# Altium integrated library ISSI SRAM Synchronous SRAM Flow-Through.IntLib: 689 symbols (part 67 of 79)
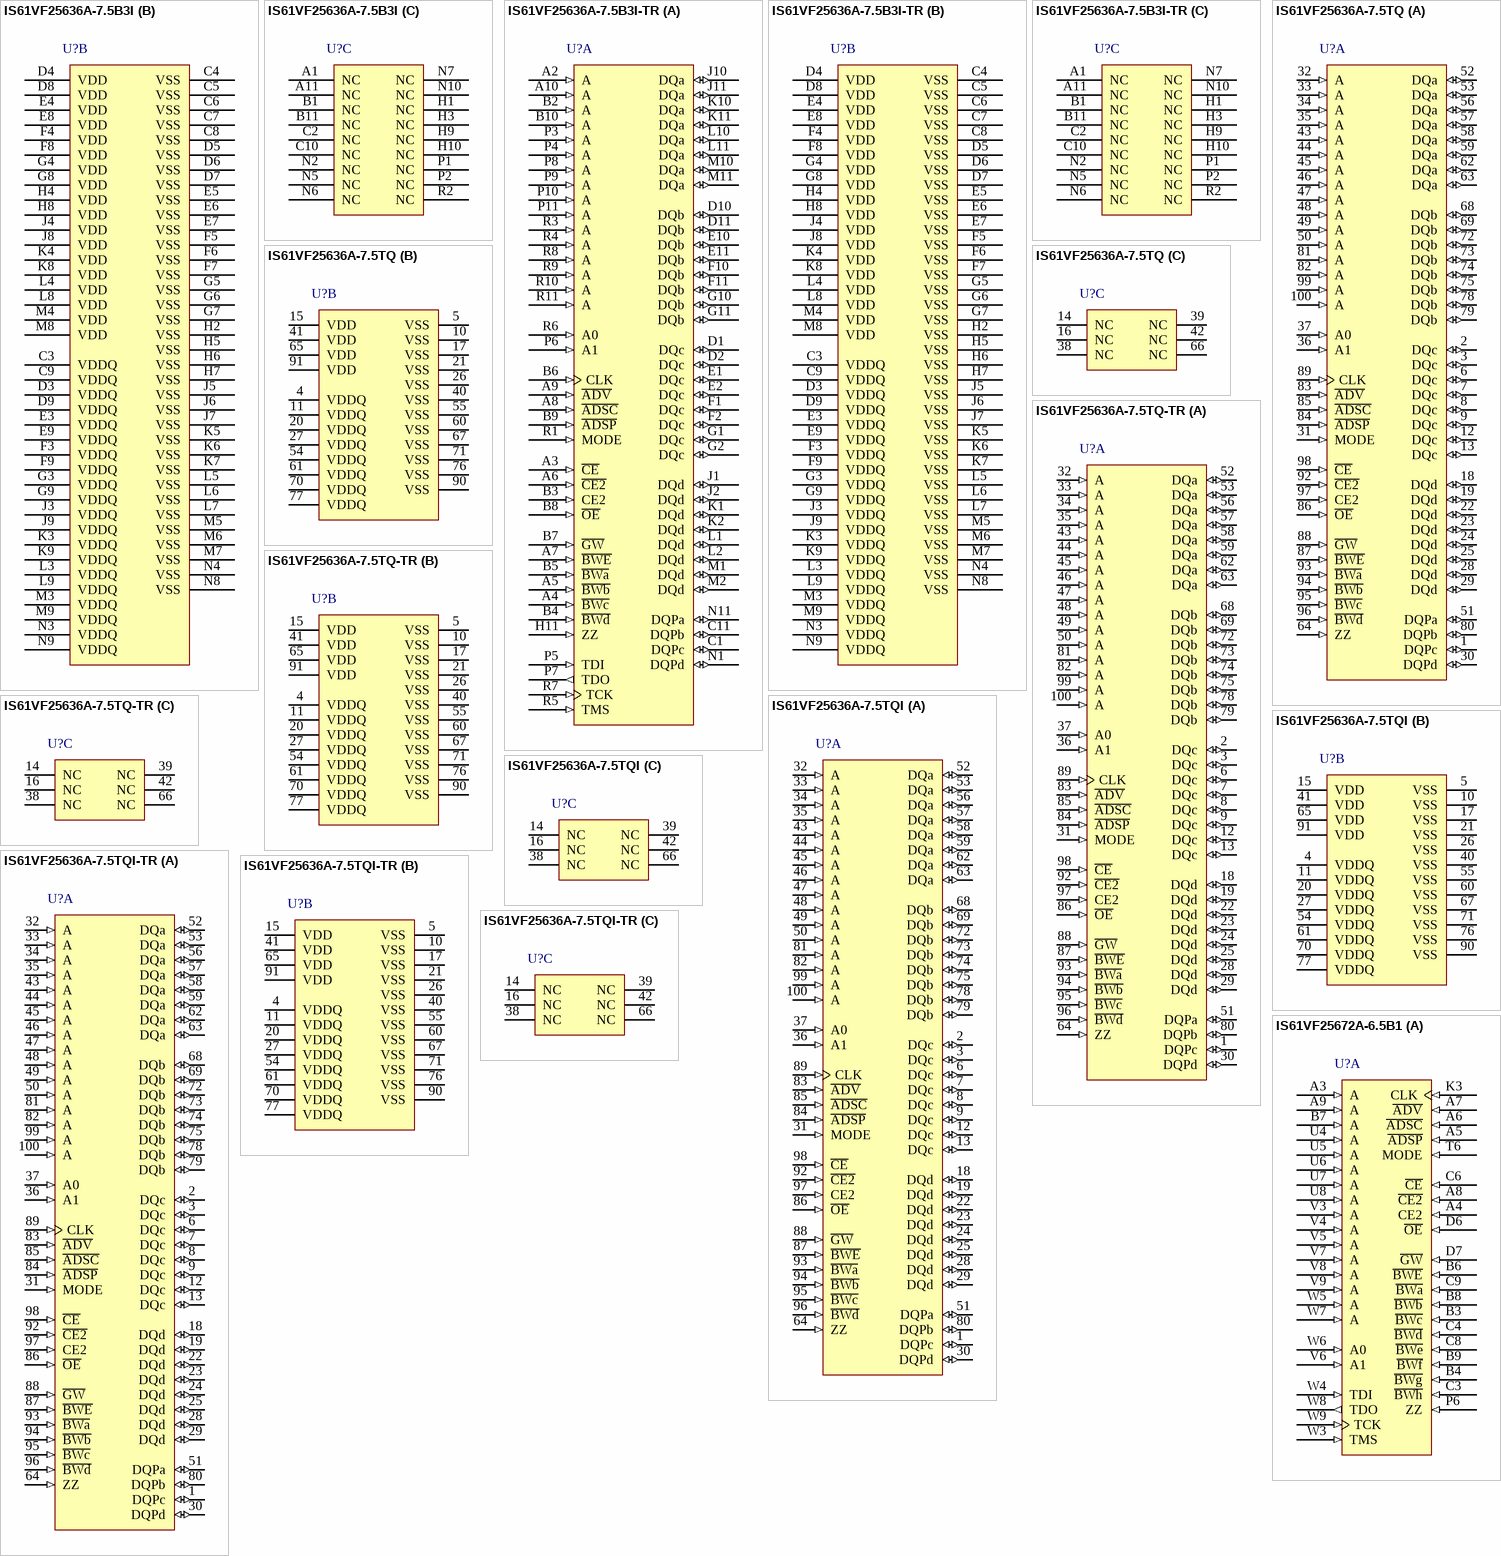
[diagram p201: symbols IS61VF25636A-7.5B3I to IS61VF25672A-6.5B1]

## IS61VF25636A-7.5TQI-TR
designator U?
9 M Synchronous Flow Through SRAM, 256 K x 36, -40 to 85 degC, 100-Pin QFP (TQFP-100); Manufacturer: Integrated Silicon Solution Inc (ISSI); PartNumber: IS61VF25636A-7.5TQI-TR; Density: 9M; Packing: Tape & Reel; Vcc: 2.5 V; DatasheetVersion: Rev. H; PackageVersion: Rev. F, 09/2009; PackageReference: TQFP-100; PackageDescription: 100-Pin 20 x 14 mm LQFP, Pitch 0.65 mm; Organization: 256Kx36; VccQ: 2.5 V; Mounting Technology: Surface Mount; ComponentLink1Description: Manufacturer URL; ComponentLink1URL: http://www.issi.com/US/index.shtml; ComponentLink2Description: Datasheet; ComponentLink2URL: http://www.issi.com/WW/pdf/61VF_LF25636A_51218A.pdf; ComponentLink3Description: Package Specification; ComponentLink3URL: http://www.issi.com/WW/pdf/61VPS_LPS25636A_51218A.pdf
footprint ISSI-TQFP-100-20000X14000DE_N (QFP, 100-Leads, Body 20x14mm, Pitch 0.65mm, IPC Medium Density)
part A pins: 1 DQPc (io) "Parity Data Input/Output", 2 DQc (io) "Synchronous Data Input/Output", 3 DQc (io) "Synchronous Data Input/Output", 6 DQc (io) "Synchronous Data Input/Output", 7 DQc (io) "Synchronous Data Input/Output", 8 DQc (io) "Synchronous Data Input/Output", 9 DQc (io) "Synchronous Data Input/Output", 12 DQc (io) "Synchronous Data Input/Output", 13 DQc (io) "Synchronous Data Input/Output", 18 DQd (io) "Synchronous Data Input/Output", 19 DQd (io) "Synchronous Data Input/Output", 22 DQd (io) "Synchronous Data Input/Output", 23 DQd (io) "Synchronous Data Input/Output", 24 DQd (io) "Synchronous Data Input/Output", 25 DQd (io) "Synchronous Data Input/Output", 28 DQd (io) "Synchronous Data Input/Output", 29 DQd (io) "Synchronous Data Input/Output", 30 DQPd (io) "Parity Data Input/Output", 31 MODE (in) "Burst Sequence Selection", 32 A (in) "Synchronous Address Input", 33 A (in) "Synchronous Address Input", 34 A (in) "Synchronous Address Input", 35 A (in) "Synchronous Address Input", 36 A1 (in) "Synchronous Address Input. These pins must tied to the two LSBs of the address bus", 37 A0 (in) "Synchronous Address Input. These pins must tied to the two LSBs of the address bus", 43 A (in) "Synchronous Address Input", 44 A (in) "Synchronous Address Input", 45 A (in) "Synchronous Address Input", 46 A (in) "Synchronous Address Input", 47 A (in) "Synchronous Address Input", 48 A (in) "Synchronous Address Input", 49 A (in) "Synchronous Address Input", 50 A (in) "Synchronous Address Input", 51 DQPa (io) "Parity Data Input/Output", 52 DQa (io) "Synchronous Data Input/Output", 53 DQa (io) "Synchronous Data Input/Output", 56 DQa (io) "Synchronous Data Input/Output", 57 DQa (io) "Synchronous Data Input/Output", 58 DQa (io) "Synchronous Data Input/Output", 59 DQa (io) "Synchronous Data Input/Output", 62 DQa (io) "Synchronous Data Input/Output", 63 DQa (io) "Synchronous Data Input/Output", 64 ZZ (in) "Snooze Enable", 68 DQb (io) "Synchronous Data Input/Output", 69 DQb (io) "Synchronous Data Input/Output", 72 DQb (io) "Synchronous Data Input/Output", 73 DQb (io) "Synchronous Data Input/Output", 74 DQb (io) "Synchronous Data Input/Output", 75 DQb (io) "Synchronous Data Input/Output", 78 DQb (io) "Synchronous Data Input/Output", 79 DQb (io) "Synchronous Data Input/Output", 80 DQPb (io) "Parity Data Input/Output", 81 A (in) "Synchronous Address Input", 82 A (in) "Synchronous Address Input", 83 ~{ADV} (in) "Synchronous Burst Address Advance", 84 ~{ADSP} (in) "Synchronous Processor Address Status", 85 ~{ADSC} (in) "Synchronous Controller Address Status", 86 ~{OE} (in) "Output Enable", 87 ~{BWE} (in) "Synchronous Byte Write Enable", 88 ~{GW} (in) "Synchronous Global Write Enable", 89 CLK (in) "Synchronous Clock", 92 ~{CE2} (in) "Synchronous Chip Enable", 93 ~{BWa} (in) "Synchronous Byte Write Enable", 94 ~{BWb} (in) "Synchronous Byte Write Enable", 95 ~{BWc} (in) "Synchronous Byte Write Enable", 96 ~{BWd} (in) "Synchronous Byte Write Enable", 97 CE2 (in) "Synchronous Chip Enable", 98 ~{CE} (in) "Synchronous Chip Enable", 99 A (in) "Synchronous Address Input", 100 A (in) "Synchronous Address Input"
part B pins: 4 VDDQ (power) "Isolated Output Buffer Supply: 3.3V/2.5V", 5 VSS (power) "Ground", 10 VSS (power) "Ground", 11 VDDQ (power) "Isolated Output Buffer Supply: 3.3V/2.5V", 15 VDD (power) "3.3V/2.5V Power Supply", 17 VSS (power) "Ground", 20 VDDQ (power) "Isolated Output Buffer Supply: 3.3V/2.5V", 21 VSS (power) "Ground", 26 VSS (power) "Ground", 27 VDDQ (power) "Isolated Output Buffer Supply: 3.3V/2.5V", 40 VSS (power) "Ground", 41 VDD (power) "3.3V/2.5V Power Supply", 54 VDDQ (power) "Isolated Output Buffer Supply: 3.3V/2.5V", 55 VSS (power) "Ground", 60 VSS (power) "Ground", 61 VDDQ (power) "Isolated Output Buffer Supply: 3.3V/2.5V", 65 VDD (power) "3.3V/2.5V Power Supply", 67 VSS (power) "Ground", 70 VDDQ (power) "Isolated Output Buffer Supply: 3.3V/2.5V", 71 VSS (power) "Ground", 76 VSS (power) "Ground", 77 VDDQ (power) "Isolated Output Buffer Supply: 3.3V/2.5V", 90 VSS (power) "Ground", 91 VDD (power) "3.3V/2.5V Power Supply"
part C pins: 14 NC "Not Connected", 16 NC "Not Connected", 38 NC "Not Connected", 39 NC "Not Connected", 42 NC "Not Connected", 66 NC "Not Connected"

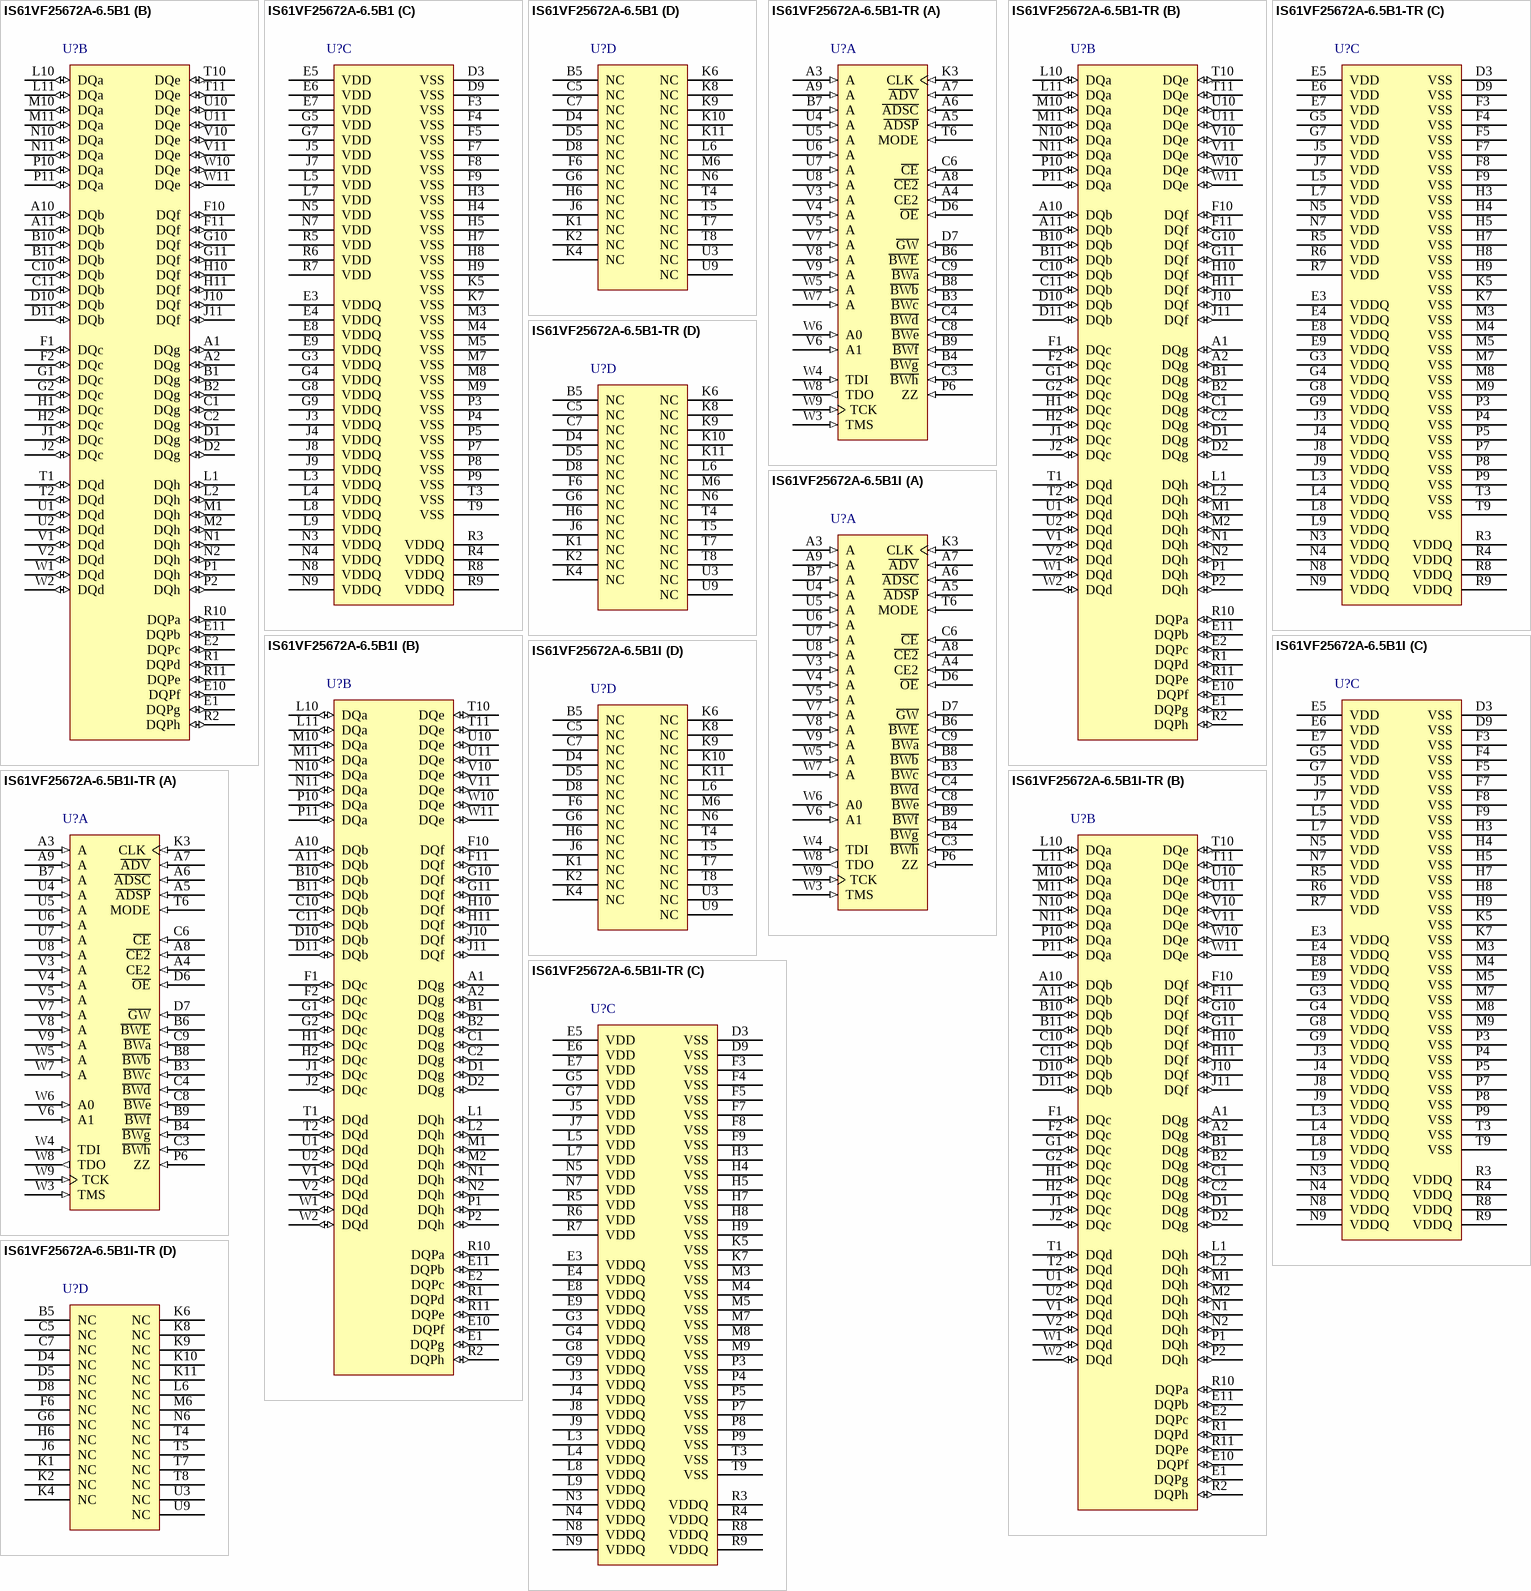
[diagram p114: symbols IS61VF25672A-6.5B1 to IS61VF25672A-6.5B1I-TR]

## IS61VF25672A-6.5B1
designator U?
18 M Synchronous Flow Through SRAM, 256 K x 72, 0 to 70 degC, 209-Pin BGA (LF-BGA-209); Manufacturer: Integrated Silicon Solution Inc (ISSI); PartNumber: IS61VF25672A-6.5B1; Density: 18M; Packing: Tray / Tube; Vcc: 2.5 V; DatasheetVersion: Rev. K; PackageVersion: Rev. B, 12/2007; PackageReference: LF-BGA-209; PackageDescription: 209-Pin 14 x 22 mm LF-BGA, Pitch 1 mm; Organization: 256Kx72; VccQ: 2.5 V; Mounting Technology: Surface Mount; ComponentLink1Description: Manufacturer URL; ComponentLink1URL: http://www.issi.com/US/index.shtml; ComponentLink2Description: Datasheet; ComponentLink2URL: http://www.issi.com/WW/pdf/61VF_LF25672A_51236A_102418A.pdf; ComponentLink3Description: Package Specification; ComponentLink3URL: http://www.issi.com/WW/pdf/61NLF_NVF25672_51236_102418.pdf
footprint ISSI-LF-BGA-209-14000X22000DE (BGA, 209-Balls, Body 22x14mm, Pitch 1mm)
part A pins: A3 A (in) "Address Input", A4 CE2 (in) "Synchronous Chip Select", A5 ~{ADSP} (in) "Address Status Processor", A6 ~{ADSC} (in) "Address Status Controller", A7 ~{ADV} (in) "Synchronous Burst Address Advance", A8 ~{CE2} (in) "Synchronous Chip Select", A9 A (in) "Address Input", B3 ~{BWc} (in) "Synchronous Byte Write Control", B4 ~{BWg} (in) "Synchronous Byte Write Control", B6 ~{BWE} (in) "Byte Write Enable", B7 A (in) "Address Input", B8 ~{BWb} (in) "Synchronous Byte Write Control", B9 ~{BWf} (in) "Synchronous Byte Write Control", C3 ~{BWh} (in) "Synchronous Byte Write Control", C4 ~{BWd} (in) "Synchronous Byte Write Control", C6 ~{CE} (in) "Synchronous Chip Select", C8 ~{BWe} (in) "Synchronous Byte Write Control", C9 ~{BWa} (in) "Synchronous Byte Write Control", D6 ~{OE} (in) "Output Enable", D7 ~{GW} (in) "Global Write Enable", K3 CLK (in) "Synchronous Clock", P6 ZZ (in) "Power Sleep Mode", T6 MODE (in) "Burst Sequence Selection", U4 A (in) "Address Input", U5 A (in) "Address Input", U6 A (in) "Address Input", U7 A (in) "Address Input", U8 A (in) "Address Input", V3 A (in) "Address Input", V4 A (in) "Address Input", V5 A (in) "Address Input", V6 A1 (in) "Synchronous Burst Address Input", V7 A (in) "Address Input", V8 A (in) "Address Input", V9 A (in) "Address Input", W3 TMS (in) "JTAG Pin", W4 TDI (in) "JTAG Pin", W5 A (in) "Address Input", W6 A0 (in) "Synchronous Burst Address Input", W7 A (in) "Address Input", W8 TDO (out) "JTAG Pin", W9 TCK (in) "JTAG Pin"
part B pins: A1 DQg (io) "Data Input/Output", A2 DQg (io) "Data Input/Output", A10 DQb (io) "Data Input/Output", A11 DQb (io) "Data Input/Output", B1 DQg (io) "Data Input/Output", B2 DQg (io) "Data Input/Output", B10 DQb (io) "Data Input/Output", B11 DQb (io) "Data Input/Output", C1 DQg (io) "Data Input/Output", C2 DQg (io) "Data Input/Output", C10 DQb (io) "Data Input/Output", C11 DQb (io) "Data Input/Output", D1 DQg (io) "Data Input/Output", D2 DQg (io) "Data Input/Output", D10 DQb (io) "Data Input/Output", D11 DQb (io) "Data Input/Output", E1 DQPg (io) "Data Input/Output", E2 DQPc (io) "Data Input/Output", E10 DQPf (io) "Data Input/Output", E11 DQPb (io) "Data Input/Output", F1 DQc (io) "Data Input/Output", F2 DQc (io) "Data Input/Output", F10 DQf (io) "Data Input/Output", F11 DQf (io) "Data Input/Output", G1 DQc (io) "Data Input/Output", G2 DQc (io) "Data Input/Output", G10 DQf (io) "Data Input/Output", G11 DQf (io) "Data Input/Output", H1 DQc (io) "Data Input/Output", H2 DQc (io) "Data Input/Output", H10 DQf (io) "Data Input/Output", H11 DQf (io) "Data Input/Output", J1 DQc (io) "Data Input/Output", J2 DQc (io) "Data Input/Output", J10 DQf (io) "Data Input/Output", J11 DQf (io) "Data Input/Output", L1 DQh (io) "Data Input/Output", L2 DQh (io) "Data Input/Output", L10 DQa (io) "Data Input/Output", L11 DQa (io) "Data Input/Output", M1 DQh (io) "Data Input/Output", M2 DQh (io) "Data Input/Output", M10 DQa (io) "Data Input/Output", M11 DQa (io) "Data Input/Output", N1 DQh (io) "Data Input/Output", N2 DQh (io) "Data Input/Output", N10 DQa (io) "Data Input/Output", N11 DQa (io) "Data Input/Output", P1 DQh (io) "Data Input/Output", P2 DQh (io) "Data Input/Output", P10 DQa (io) "Data Input/Output", P11 DQa (io) "Data Input/Output", R1 DQPd (io) "Data Input/Output", R2 DQPh (io) "Data Input/Output", R10 DQPa (io) "Data Input/Output", R11 DQPe (io) "Data Input/Output", T1 DQd (io) "Data Input/Output", T2 DQd (io) "Data Input/Output", T10 DQe (io) "Data Input/Output", T11 DQe (io) "Data Input/Output", U1 DQd (io) "Data Input/Output", U2 DQd (io) "Data Input/Output", U10 DQe (io) "Data Input/Output", U11 DQe (io) "Data Input/Output", V1 DQd (io) "Data Input/Output", V2 DQd (io) "Data Input/Output", V10 DQe (io) "Data Input/Output", V11 DQe (io) "Data Input/Output", W1 DQd (io) "Data Input/Output", W2 DQd (io) "Data Input/Output", W10 DQe (io) "Data Input/Output", W11 DQe (io) "Data Input/Output"
part C pins: D3 VSS (power) "Ground", D9 VSS (power) "Ground", E3 VDDQ (power) "Isolated Output Power Supply 3.3V/2.5V", E4 VDDQ (power) "Isolated Output Power Supply 3.3V/2.5V", E5 VDD (power) "3.3V/2.5V Power Supply", E6 VDD (power) "3.3V/2.5V Power Supply", E7 VDD (power) "3.3V/2.5V Power Supply", E8 VDDQ (power) "Isolated Output Power Supply 3.3V/2.5V", E9 VDDQ (power) "Isolated Output Power Supply 3.3V/2.5V", F3 VSS (power) "Ground", F4 VSS (power) "Ground", F5 VSS (power) "Ground", F7 VSS (power) "Ground", F8 VSS (power) "Ground", F9 VSS (power) "Ground", G3 VDDQ (power) "Isolated Output Power Supply 3.3V/2.5V", G4 VDDQ (power) "Isolated Output Power Supply 3.3V/2.5V", G5 VDD (power) "3.3V/2.5V Power Supply", G7 VDD (power) "3.3V/2.5V Power Supply", G8 VDDQ (power) "Isolated Output Power Supply 3.3V/2.5V", G9 VDDQ (power) "Isolated Output Power Supply 3.3V/2.5V", H3 VSS (power) "Ground", H4 VSS (power) "Ground", H5 VSS (power) "Ground", H7 VSS (power) "Ground", H8 VSS (power) "Ground", H9 VSS (power) "Ground", J3 VDDQ (power) "Isolated Output Power Supply 3.3V/2.5V", J4 VDDQ (power) "Isolated Output Power Supply 3.3V/2.5V", J5 VDD (power) "3.3V/2.5V Power Supply", J7 VDD (power) "3.3V/2.5V Power Supply", J8 VDDQ (power) "Isolated Output Power Supply 3.3V/2.5V", J9 VDDQ (power) "Isolated Output Power Supply 3.3V/2.5V", K5 VSS (power) "Ground", K7 VSS (power) "Ground", L3 VDDQ (power) "Isolated Output Power Supply 3.3V/2.5V", L4 VDDQ (power) "Isolated Output Power Supply 3.3V/2.5V", L5 VDD (power) "3.3V/2.5V Power Supply", L7 VDD (power) "3.3V/2.5V Power Supply", L8 VDDQ (power) "Isolated Output Power Supply 3.3V/2.5V", L9 VDDQ (power) "Isolated Output Power Supply 3.3V/2.5V", M3 VSS (power) "Ground", M4 VSS (power) "Ground", M5 VSS (power) "Ground", M7 VSS (power) "Ground", M8 VSS (power) "Ground", M9 VSS (power) "Ground", N3 VDDQ (power) "Isolated Output Power Supply 3.3V/2.5V", N4 VDDQ (power) "Isolated Output Power Supply 3.3V/2.5V", N5 VDD (power) "3.3V/2.5V Power Supply", N7 VDD (power) "3.3V/2.5V Power Supply", N8 VDDQ (power) "Isolated Output Power Supply 3.3V/2.5V", N9 VDDQ (power) "Isolated Output Power Supply 3.3V/2.5V", P3 VSS (power) "Ground", P4 VSS (power) "Ground", P5 VSS (power) "Ground", P7 VSS (power) "Ground", P8 VSS (power) "Ground", P9 VSS (power) "Ground", R3 VDDQ (power) "Isolated Output Power Supply 3.3V/2.5V", R4 VDDQ (power) "Isolated Output Power Supply 3.3V/2.5V", R5 VDD (power) "3.3V/2.5V Power Supply", R6 VDD (power) "3.3V/2.5V Power Supply", R7 VDD (power) "3.3V/2.5V Power Supply", R8 VDDQ (power) "Isolated Output Power Supply 3.3V/2.5V", R9 VDDQ (power) "Isolated Output Power Supply 3.3V/2.5V", T3 VSS (power) "Ground", T9 VSS (power) "Ground"
part D pins: B5 NC "No Connect", C5 NC "No Connect", C7 NC "No Connect", D4 NC "No Connect", D5 NC "No Connect", D8 NC "No Connect", F6 NC "No Connect", G6 NC "No Connect", H6 NC "No Connect", J6 NC "No Connect", K1 NC "No Connect", K2 NC "No Connect", K4 NC "No Connect", K6 NC "No Connect", K8 NC "No Connect", K9 NC "No Connect", K10 NC "No Connect", K11 NC "No Connect", L6 NC "No Connect", M6 NC "No Connect", N6 NC "No Connect", T4 NC "No Connect", T5 NC "No Connect", T7 NC "No Connect", T8 NC "No Connect", U3 NC "No Connect", U9 NC "No Connect"

## IS61VF25672A-6.5B1-TR
designator U?
18 M Synchronous Flow Through SRAM, 256 K x 72, 0 to 70 degC, 209-Pin BGA (LF-BGA-209); Manufacturer: Integrated Silicon Solution Inc (ISSI); PartNumber: IS61VF25672A-6.5B1-TR; Density: 18M; Packing: Tape & Reel; Vcc: 2.5 V; DatasheetVersion: Rev. K; PackageVersion: Rev. B, 12/2007; PackageReference: LF-BGA-209; PackageDescription: 209-Pin 14 x 22 mm LF-BGA, Pitch 1 mm; Organization: 256Kx72; VccQ: 2.5 V; Mounting Technology: Surface Mount; ComponentLink1Description: Manufacturer URL; ComponentLink1URL: http://www.issi.com/US/index.shtml; ComponentLink2Description: Datasheet; ComponentLink2URL: http://www.issi.com/WW/pdf/61VF_LF25672A_51236A_102418A.pdf; ComponentLink3Description: Package Specification; ComponentLink3URL: http://www.issi.com/WW/pdf/61NLF_NVF25672_51236_102418.pdf
footprint ISSI-LF-BGA-209-14000X22000DE (BGA, 209-Balls, Body 22x14mm, Pitch 1mm)
part A pins: A3 A (in) "Address Input", A4 CE2 (in) "Synchronous Chip Select", A5 ~{ADSP} (in) "Address Status Processor", A6 ~{ADSC} (in) "Address Status Controller", A7 ~{ADV} (in) "Synchronous Burst Address Advance", A8 ~{CE2} (in) "Synchronous Chip Select", A9 A (in) "Address Input", B3 ~{BWc} (in) "Synchronous Byte Write Control", B4 ~{BWg} (in) "Synchronous Byte Write Control", B6 ~{BWE} (in) "Byte Write Enable", B7 A (in) "Address Input", B8 ~{BWb} (in) "Synchronous Byte Write Control", B9 ~{BWf} (in) "Synchronous Byte Write Control", C3 ~{BWh} (in) "Synchronous Byte Write Control", C4 ~{BWd} (in) "Synchronous Byte Write Control", C6 ~{CE} (in) "Synchronous Chip Select", C8 ~{BWe} (in) "Synchronous Byte Write Control", C9 ~{BWa} (in) "Synchronous Byte Write Control", D6 ~{OE} (in) "Output Enable", D7 ~{GW} (in) "Global Write Enable", K3 CLK (in) "Synchronous Clock", P6 ZZ (in) "Power Sleep Mode", T6 MODE (in) "Burst Sequence Selection", U4 A (in) "Address Input", U5 A (in) "Address Input", U6 A (in) "Address Input", U7 A (in) "Address Input", U8 A (in) "Address Input", V3 A (in) "Address Input", V4 A (in) "Address Input", V5 A (in) "Address Input", V6 A1 (in) "Synchronous Burst Address Input", V7 A (in) "Address Input", V8 A (in) "Address Input", V9 A (in) "Address Input", W3 TMS (in) "JTAG Pin", W4 TDI (in) "JTAG Pin", W5 A (in) "Address Input", W6 A0 (in) "Synchronous Burst Address Input", W7 A (in) "Address Input", W8 TDO (out) "JTAG Pin", W9 TCK (in) "JTAG Pin"
part B pins: A1 DQg (io) "Data Input/Output", A2 DQg (io) "Data Input/Output", A10 DQb (io) "Data Input/Output", A11 DQb (io) "Data Input/Output", B1 DQg (io) "Data Input/Output", B2 DQg (io) "Data Input/Output", B10 DQb (io) "Data Input/Output", B11 DQb (io) "Data Input/Output", C1 DQg (io) "Data Input/Output", C2 DQg (io) "Data Input/Output", C10 DQb (io) "Data Input/Output", C11 DQb (io) "Data Input/Output", D1 DQg (io) "Data Input/Output", D2 DQg (io) "Data Input/Output", D10 DQb (io) "Data Input/Output", D11 DQb (io) "Data Input/Output", E1 DQPg (io) "Data Input/Output", E2 DQPc (io) "Data Input/Output", E10 DQPf (io) "Data Input/Output", E11 DQPb (io) "Data Input/Output", F1 DQc (io) "Data Input/Output", F2 DQc (io) "Data Input/Output", F10 DQf (io) "Data Input/Output", F11 DQf (io) "Data Input/Output", G1 DQc (io) "Data Input/Output", G2 DQc (io) "Data Input/Output", G10 DQf (io) "Data Input/Output", G11 DQf (io) "Data Input/Output", H1 DQc (io) "Data Input/Output", H2 DQc (io) "Data Input/Output", H10 DQf (io) "Data Input/Output", H11 DQf (io) "Data Input/Output", J1 DQc (io) "Data Input/Output", J2 DQc (io) "Data Input/Output", J10 DQf (io) "Data Input/Output", J11 DQf (io) "Data Input/Output", L1 DQh (io) "Data Input/Output", L2 DQh (io) "Data Input/Output", L10 DQa (io) "Data Input/Output", L11 DQa (io) "Data Input/Output", M1 DQh (io) "Data Input/Output", M2 DQh (io) "Data Input/Output", M10 DQa (io) "Data Input/Output", M11 DQa (io) "Data Input/Output", N1 DQh (io) "Data Input/Output", N2 DQh (io) "Data Input/Output", N10 DQa (io) "Data Input/Output", N11 DQa (io) "Data Input/Output", P1 DQh (io) "Data Input/Output", P2 DQh (io) "Data Input/Output", P10 DQa (io) "Data Input/Output", P11 DQa (io) "Data Input/Output", R1 DQPd (io) "Data Input/Output", R2 DQPh (io) "Data Input/Output", R10 DQPa (io) "Data Input/Output", R11 DQPe (io) "Data Input/Output", T1 DQd (io) "Data Input/Output", T2 DQd (io) "Data Input/Output", T10 DQe (io) "Data Input/Output", T11 DQe (io) "Data Input/Output", U1 DQd (io) "Data Input/Output", U2 DQd (io) "Data Input/Output", U10 DQe (io) "Data Input/Output", U11 DQe (io) "Data Input/Output", V1 DQd (io) "Data Input/Output", V2 DQd (io) "Data Input/Output", V10 DQe (io) "Data Input/Output", V11 DQe (io) "Data Input/Output", W1 DQd (io) "Data Input/Output", W2 DQd (io) "Data Input/Output", W10 DQe (io) "Data Input/Output", W11 DQe (io) "Data Input/Output"
part C pins: D3 VSS (power) "Ground", D9 VSS (power) "Ground", E3 VDDQ (power) "Isolated Output Power Supply 3.3V/2.5V", E4 VDDQ (power) "Isolated Output Power Supply 3.3V/2.5V", E5 VDD (power) "3.3V/2.5V Power Supply", E6 VDD (power) "3.3V/2.5V Power Supply", E7 VDD (power) "3.3V/2.5V Power Supply", E8 VDDQ (power) "Isolated Output Power Supply 3.3V/2.5V", E9 VDDQ (power) "Isolated Output Power Supply 3.3V/2.5V", F3 VSS (power) "Ground", F4 VSS (power) "Ground", F5 VSS (power) "Ground", F7 VSS (power) "Ground", F8 VSS (power) "Ground", F9 VSS (power) "Ground", G3 VDDQ (power) "Isolated Output Power Supply 3.3V/2.5V", G4 VDDQ (power) "Isolated Output Power Supply 3.3V/2.5V", G5 VDD (power) "3.3V/2.5V Power Supply", G7 VDD (power) "3.3V/2.5V Power Supply", G8 VDDQ (power) "Isolated Output Power Supply 3.3V/2.5V", G9 VDDQ (power) "Isolated Output Power Supply 3.3V/2.5V", H3 VSS (power) "Ground", H4 VSS (power) "Ground", H5 VSS (power) "Ground", H7 VSS (power) "Ground", H8 VSS (power) "Ground", H9 VSS (power) "Ground", J3 VDDQ (power) "Isolated Output Power Supply 3.3V/2.5V", J4 VDDQ (power) "Isolated Output Power Supply 3.3V/2.5V", J5 VDD (power) "3.3V/2.5V Power Supply", J7 VDD (power) "3.3V/2.5V Power Supply", J8 VDDQ (power) "Isolated Output Power Supply 3.3V/2.5V", J9 VDDQ (power) "Isolated Output Power Supply 3.3V/2.5V", K5 VSS (power) "Ground", K7 VSS (power) "Ground", L3 VDDQ (power) "Isolated Output Power Supply 3.3V/2.5V", L4 VDDQ (power) "Isolated Output Power Supply 3.3V/2.5V", L5 VDD (power) "3.3V/2.5V Power Supply", L7 VDD (power) "3.3V/2.5V Power Supply", L8 VDDQ (power) "Isolated Output Power Supply 3.3V/2.5V", L9 VDDQ (power) "Isolated Output Power Supply 3.3V/2.5V", M3 VSS (power) "Ground", M4 VSS (power) "Ground", M5 VSS (power) "Ground", M7 VSS (power) "Ground", M8 VSS (power) "Ground", M9 VSS (power) "Ground", N3 VDDQ (power) "Isolated Output Power Supply 3.3V/2.5V", N4 VDDQ (power) "Isolated Output Power Supply 3.3V/2.5V", N5 VDD (power) "3.3V/2.5V Power Supply", N7 VDD (power) "3.3V/2.5V Power Supply", N8 VDDQ (power) "Isolated Output Power Supply 3.3V/2.5V", N9 VDDQ (power) "Isolated Output Power Supply 3.3V/2.5V", P3 VSS (power) "Ground", P4 VSS (power) "Ground", P5 VSS (power) "Ground", P7 VSS (power) "Ground", P8 VSS (power) "Ground", P9 VSS (power) "Ground", R3 VDDQ (power) "Isolated Output Power Supply 3.3V/2.5V", R4 VDDQ (power) "Isolated Output Power Supply 3.3V/2.5V", R5 VDD (power) "3.3V/2.5V Power Supply", R6 VDD (power) "3.3V/2.5V Power Supply", R7 VDD (power) "3.3V/2.5V Power Supply", R8 VDDQ (power) "Isolated Output Power Supply 3.3V/2.5V", R9 VDDQ (power) "Isolated Output Power Supply 3.3V/2.5V", T3 VSS (power) "Ground", T9 VSS (power) "Ground"
part D pins: B5 NC "No Connect", C5 NC "No Connect", C7 NC "No Connect", D4 NC "No Connect", D5 NC "No Connect", D8 NC "No Connect", F6 NC "No Connect", G6 NC "No Connect", H6 NC "No Connect", J6 NC "No Connect", K1 NC "No Connect", K2 NC "No Connect", K4 NC "No Connect", K6 NC "No Connect", K8 NC "No Connect", K9 NC "No Connect", K10 NC "No Connect", K11 NC "No Connect", L6 NC "No Connect", M6 NC "No Connect", N6 NC "No Connect", T4 NC "No Connect", T5 NC "No Connect", T7 NC "No Connect", T8 NC "No Connect", U3 NC "No Connect", U9 NC "No Connect"

## IS61VF25672A-6.5B1I
designator U?
18 M Synchronous Flow Through SRAM, 256 K x 72, -40 to 85 degC, 209-Pin BGA (LF-BGA-209); Manufacturer: Integrated Silicon Solution Inc (ISSI); PartNumber: IS61VF25672A-6.5B1I; Density: 18M; Packing: Tray / Tube; Vcc: 2.5 V; DatasheetVersion: Rev. K; PackageVersion: Rev. B, 12/2007; PackageReference: LF-BGA-209; PackageDescription: 209-Pin 14 x 22 mm LF-BGA, Pitch 1 mm; Organization: 256Kx72; VccQ: 2.5 V; Mounting Technology: Surface Mount; ComponentLink1Description: Manufacturer URL; ComponentLink1URL: http://www.issi.com/US/index.shtml; ComponentLink2Description: Datasheet; ComponentLink2URL: http://www.issi.com/WW/pdf/61VF_LF25672A_51236A_102418A.pdf; ComponentLink3Description: Package Specification; ComponentLink3URL: http://www.issi.com/WW/pdf/61NLF_NVF25672_51236_102418.pdf
footprint ISSI-LF-BGA-209-14000X22000DE (BGA, 209-Balls, Body 22x14mm, Pitch 1mm)
part A pins: A3 A (in) "Address Input", A4 CE2 (in) "Synchronous Chip Select", A5 ~{ADSP} (in) "Address Status Processor", A6 ~{ADSC} (in) "Address Status Controller", A7 ~{ADV} (in) "Synchronous Burst Address Advance", A8 ~{CE2} (in) "Synchronous Chip Select", A9 A (in) "Address Input", B3 ~{BWc} (in) "Synchronous Byte Write Control", B4 ~{BWg} (in) "Synchronous Byte Write Control", B6 ~{BWE} (in) "Byte Write Enable", B7 A (in) "Address Input", B8 ~{BWb} (in) "Synchronous Byte Write Control", B9 ~{BWf} (in) "Synchronous Byte Write Control", C3 ~{BWh} (in) "Synchronous Byte Write Control", C4 ~{BWd} (in) "Synchronous Byte Write Control", C6 ~{CE} (in) "Synchronous Chip Select", C8 ~{BWe} (in) "Synchronous Byte Write Control", C9 ~{BWa} (in) "Synchronous Byte Write Control", D6 ~{OE} (in) "Output Enable", D7 ~{GW} (in) "Global Write Enable", K3 CLK (in) "Synchronous Clock", P6 ZZ (in) "Power Sleep Mode", T6 MODE (in) "Burst Sequence Selection", U4 A (in) "Address Input", U5 A (in) "Address Input", U6 A (in) "Address Input", U7 A (in) "Address Input", U8 A (in) "Address Input", V3 A (in) "Address Input", V4 A (in) "Address Input", V5 A (in) "Address Input", V6 A1 (in) "Synchronous Burst Address Input", V7 A (in) "Address Input", V8 A (in) "Address Input", V9 A (in) "Address Input", W3 TMS (in) "JTAG Pin", W4 TDI (in) "JTAG Pin", W5 A (in) "Address Input", W6 A0 (in) "Synchronous Burst Address Input", W7 A (in) "Address Input", W8 TDO (out) "JTAG Pin", W9 TCK (in) "JTAG Pin"
part B pins: A1 DQg (io) "Data Input/Output", A2 DQg (io) "Data Input/Output", A10 DQb (io) "Data Input/Output", A11 DQb (io) "Data Input/Output", B1 DQg (io) "Data Input/Output", B2 DQg (io) "Data Input/Output", B10 DQb (io) "Data Input/Output", B11 DQb (io) "Data Input/Output", C1 DQg (io) "Data Input/Output", C2 DQg (io) "Data Input/Output", C10 DQb (io) "Data Input/Output", C11 DQb (io) "Data Input/Output", D1 DQg (io) "Data Input/Output", D2 DQg (io) "Data Input/Output", D10 DQb (io) "Data Input/Output", D11 DQb (io) "Data Input/Output", E1 DQPg (io) "Data Input/Output", E2 DQPc (io) "Data Input/Output", E10 DQPf (io) "Data Input/Output", E11 DQPb (io) "Data Input/Output", F1 DQc (io) "Data Input/Output", F2 DQc (io) "Data Input/Output", F10 DQf (io) "Data Input/Output", F11 DQf (io) "Data Input/Output", G1 DQc (io) "Data Input/Output", G2 DQc (io) "Data Input/Output", G10 DQf (io) "Data Input/Output", G11 DQf (io) "Data Input/Output", H1 DQc (io) "Data Input/Output", H2 DQc (io) "Data Input/Output", H10 DQf (io) "Data Input/Output", H11 DQf (io) "Data Input/Output", J1 DQc (io) "Data Input/Output", J2 DQc (io) "Data Input/Output", J10 DQf (io) "Data Input/Output", J11 DQf (io) "Data Input/Output", L1 DQh (io) "Data Input/Output", L2 DQh (io) "Data Input/Output", L10 DQa (io) "Data Input/Output", L11 DQa (io) "Data Input/Output", M1 DQh (io) "Data Input/Output", M2 DQh (io) "Data Input/Output", M10 DQa (io) "Data Input/Output", M11 DQa (io) "Data Input/Output", N1 DQh (io) "Data Input/Output", N2 DQh (io) "Data Input/Output", N10 DQa (io) "Data Input/Output", N11 DQa (io) "Data Input/Output", P1 DQh (io) "Data Input/Output", P2 DQh (io) "Data Input/Output", P10 DQa (io) "Data Input/Output", P11 DQa (io) "Data Input/Output", R1 DQPd (io) "Data Input/Output", R2 DQPh (io) "Data Input/Output", R10 DQPa (io) "Data Input/Output", R11 DQPe (io) "Data Input/Output", T1 DQd (io) "Data Input/Output", T2 DQd (io) "Data Input/Output", T10 DQe (io) "Data Input/Output", T11 DQe (io) "Data Input/Output", U1 DQd (io) "Data Input/Output", U2 DQd (io) "Data Input/Output", U10 DQe (io) "Data Input/Output", U11 DQe (io) "Data Input/Output", V1 DQd (io) "Data Input/Output", V2 DQd (io) "Data Input/Output", V10 DQe (io) "Data Input/Output", V11 DQe (io) "Data Input/Output", W1 DQd (io) "Data Input/Output", W2 DQd (io) "Data Input/Output", W10 DQe (io) "Data Input/Output", W11 DQe (io) "Data Input/Output"
part C pins: D3 VSS (power) "Ground", D9 VSS (power) "Ground", E3 VDDQ (power) "Isolated Output Power Supply 3.3V/2.5V", E4 VDDQ (power) "Isolated Output Power Supply 3.3V/2.5V", E5 VDD (power) "3.3V/2.5V Power Supply", E6 VDD (power) "3.3V/2.5V Power Supply", E7 VDD (power) "3.3V/2.5V Power Supply", E8 VDDQ (power) "Isolated Output Power Supply 3.3V/2.5V", E9 VDDQ (power) "Isolated Output Power Supply 3.3V/2.5V", F3 VSS (power) "Ground", F4 VSS (power) "Ground", F5 VSS (power) "Ground", F7 VSS (power) "Ground", F8 VSS (power) "Ground", F9 VSS (power) "Ground", G3 VDDQ (power) "Isolated Output Power Supply 3.3V/2.5V", G4 VDDQ (power) "Isolated Output Power Supply 3.3V/2.5V", G5 VDD (power) "3.3V/2.5V Power Supply", G7 VDD (power) "3.3V/2.5V Power Supply", G8 VDDQ (power) "Isolated Output Power Supply 3.3V/2.5V", G9 VDDQ (power) "Isolated Output Power Supply 3.3V/2.5V", H3 VSS (power) "Ground", H4 VSS (power) "Ground", H5 VSS (power) "Ground", H7 VSS (power) "Ground", H8 VSS (power) "Ground", H9 VSS (power) "Ground", J3 VDDQ (power) "Isolated Output Power Supply 3.3V/2.5V", J4 VDDQ (power) "Isolated Output Power Supply 3.3V/2.5V", J5 VDD (power) "3.3V/2.5V Power Supply", J7 VDD (power) "3.3V/2.5V Power Supply", J8 VDDQ (power) "Isolated Output Power Supply 3.3V/2.5V", J9 VDDQ (power) "Isolated Output Power Supply 3.3V/2.5V", K5 VSS (power) "Ground", K7 VSS (power) "Ground", L3 VDDQ (power) "Isolated Output Power Supply 3.3V/2.5V", L4 VDDQ (power) "Isolated Output Power Supply 3.3V/2.5V", L5 VDD (power) "3.3V/2.5V Power Supply", L7 VDD (power) "3.3V/2.5V Power Supply", L8 VDDQ (power) "Isolated Output Power Supply 3.3V/2.5V", L9 VDDQ (power) "Isolated Output Power Supply 3.3V/2.5V", M3 VSS (power) "Ground", M4 VSS (power) "Ground", M5 VSS (power) "Ground", M7 VSS (power) "Ground", M8 VSS (power) "Ground", M9 VSS (power) "Ground", N3 VDDQ (power) "Isolated Output Power Supply 3.3V/2.5V", N4 VDDQ (power) "Isolated Output Power Supply 3.3V/2.5V", N5 VDD (power) "3.3V/2.5V Power Supply", N7 VDD (power) "3.3V/2.5V Power Supply", N8 VDDQ (power) "Isolated Output Power Supply 3.3V/2.5V", N9 VDDQ (power) "Isolated Output Power Supply 3.3V/2.5V", P3 VSS (power) "Ground", P4 VSS (power) "Ground", P5 VSS (power) "Ground", P7 VSS (power) "Ground", P8 VSS (power) "Ground", P9 VSS (power) "Ground", R3 VDDQ (power) "Isolated Output Power Supply 3.3V/2.5V", R4 VDDQ (power) "Isolated Output Power Supply 3.3V/2.5V", R5 VDD (power) "3.3V/2.5V Power Supply", R6 VDD (power) "3.3V/2.5V Power Supply", R7 VDD (power) "3.3V/2.5V Power Supply", R8 VDDQ (power) "Isolated Output Power Supply 3.3V/2.5V", R9 VDDQ (power) "Isolated Output Power Supply 3.3V/2.5V", T3 VSS (power) "Ground", T9 VSS (power) "Ground"
part D pins: B5 NC "No Connect", C5 NC "No Connect", C7 NC "No Connect", D4 NC "No Connect", D5 NC "No Connect", D8 NC "No Connect", F6 NC "No Connect", G6 NC "No Connect", H6 NC "No Connect", J6 NC "No Connect", K1 NC "No Connect", K2 NC "No Connect", K4 NC "No Connect", K6 NC "No Connect", K8 NC "No Connect", K9 NC "No Connect", K10 NC "No Connect", K11 NC "No Connect", L6 NC "No Connect", M6 NC "No Connect", N6 NC "No Connect", T4 NC "No Connect", T5 NC "No Connect", T7 NC "No Connect", T8 NC "No Connect", U3 NC "No Connect", U9 NC "No Connect"

## IS61VF25672A-6.5B1I-TR
designator U?
18 M Synchronous Flow Through SRAM, 256 K x 72, -40 to 85 degC, 209-Pin BGA (LF-BGA-209); Manufacturer: Integrated Silicon Solution Inc (ISSI); PartNumber: IS61VF25672A-6.5B1I-TR; Density: 18M; Packing: Tape & Reel; Vcc: 2.5 V; DatasheetVersion: Rev. K; PackageVersion: Rev. B, 12/2007; PackageReference: LF-BGA-209; PackageDescription: 209-Pin 14 x 22 mm LF-BGA, Pitch 1 mm; Organization: 256Kx72; VccQ: 2.5 V; Mounting Technology: Surface Mount; ComponentLink1Description: Manufacturer URL; ComponentLink1URL: http://www.issi.com/US/index.shtml; ComponentLink2Description: Datasheet; ComponentLink2URL: http://www.issi.com/WW/pdf/61VF_LF25672A_51236A_102418A.pdf; ComponentLink3Description: Package Specification; ComponentLink3URL: http://www.issi.com/WW/pdf/61NLF_NVF25672_51236_102418.pdf
footprint ISSI-LF-BGA-209-14000X22000DE (BGA, 209-Balls, Body 22x14mm, Pitch 1mm)
part A pins: A3 A (in) "Address Input", A4 CE2 (in) "Synchronous Chip Select", A5 ~{ADSP} (in) "Address Status Processor", A6 ~{ADSC} (in) "Address Status Controller", A7 ~{ADV} (in) "Synchronous Burst Address Advance", A8 ~{CE2} (in) "Synchronous Chip Select", A9 A (in) "Address Input", B3 ~{BWc} (in) "Synchronous Byte Write Control", B4 ~{BWg} (in) "Synchronous Byte Write Control", B6 ~{BWE} (in) "Byte Write Enable", B7 A (in) "Address Input", B8 ~{BWb} (in) "Synchronous Byte Write Control", B9 ~{BWf} (in) "Synchronous Byte Write Control", C3 ~{BWh} (in) "Synchronous Byte Write Control", C4 ~{BWd} (in) "Synchronous Byte Write Control", C6 ~{CE} (in) "Synchronous Chip Select", C8 ~{BWe} (in) "Synchronous Byte Write Control", C9 ~{BWa} (in) "Synchronous Byte Write Control", D6 ~{OE} (in) "Output Enable", D7 ~{GW} (in) "Global Write Enable", K3 CLK (in) "Synchronous Clock", P6 ZZ (in) "Power Sleep Mode", T6 MODE (in) "Burst Sequence Selection", U4 A (in) "Address Input", U5 A (in) "Address Input", U6 A (in) "Address Input", U7 A (in) "Address Input", U8 A (in) "Address Input", V3 A (in) "Address Input", V4 A (in) "Address Input", V5 A (in) "Address Input", V6 A1 (in) "Synchronous Burst Address Input", V7 A (in) "Address Input", V8 A (in) "Address Input", V9 A (in) "Address Input", W3 TMS (in) "JTAG Pin", W4 TDI (in) "JTAG Pin", W5 A (in) "Address Input", W6 A0 (in) "Synchronous Burst Address Input", W7 A (in) "Address Input", W8 TDO (out) "JTAG Pin", W9 TCK (in) "JTAG Pin"
part B pins: A1 DQg (io) "Data Input/Output", A2 DQg (io) "Data Input/Output", A10 DQb (io) "Data Input/Output", A11 DQb (io) "Data Input/Output", B1 DQg (io) "Data Input/Output", B2 DQg (io) "Data Input/Output", B10 DQb (io) "Data Input/Output", B11 DQb (io) "Data Input/Output", C1 DQg (io) "Data Input/Output", C2 DQg (io) "Data Input/Output", C10 DQb (io) "Data Input/Output", C11 DQb (io) "Data Input/Output", D1 DQg (io) "Data Input/Output", D2 DQg (io) "Data Input/Output", D10 DQb (io) "Data Input/Output", D11 DQb (io) "Data Input/Output", E1 DQPg (io) "Data Input/Output", E2 DQPc (io) "Data Input/Output", E10 DQPf (io) "Data Input/Output", E11 DQPb (io) "Data Input/Output", F1 DQc (io) "Data Input/Output", F2 DQc (io) "Data Input/Output", F10 DQf (io) "Data Input/Output", F11 DQf (io) "Data Input/Output", G1 DQc (io) "Data Input/Output", G2 DQc (io) "Data Input/Output", G10 DQf (io) "Data Input/Output", G11 DQf (io) "Data Input/Output", H1 DQc (io) "Data Input/Output", H2 DQc (io) "Data Input/Output", H10 DQf (io) "Data Input/Output", H11 DQf (io) "Data Input/Output", J1 DQc (io) "Data Input/Output", J2 DQc (io) "Data Input/Output", J10 DQf (io) "Data Input/Output", J11 DQf (io) "Data Input/Output", L1 DQh (io) "Data Input/Output", L2 DQh (io) "Data Input/Output", L10 DQa (io) "Data Input/Output", L11 DQa (io) "Data Input/Output", M1 DQh (io) "Data Input/Output", M2 DQh (io) "Data Input/Output", M10 DQa (io) "Data Input/Output", M11 DQa (io) "Data Input/Output", N1 DQh (io) "Data Input/Output", N2 DQh (io) "Data Input/Output", N10 DQa (io) "Data Input/Output", N11 DQa (io) "Data Input/Output", P1 DQh (io) "Data Input/Output", P2 DQh (io) "Data Input/Output", P10 DQa (io) "Data Input/Output", P11 DQa (io) "Data Input/Output", R1 DQPd (io) "Data Input/Output", R2 DQPh (io) "Data Input/Output", R10 DQPa (io) "Data Input/Output", R11 DQPe (io) "Data Input/Output", T1 DQd (io) "Data Input/Output", T2 DQd (io) "Data Input/Output", T10 DQe (io) "Data Input/Output", T11 DQe (io) "Data Input/Output", U1 DQd (io) "Data Input/Output", U2 DQd (io) "Data Input/Output", U10 DQe (io) "Data Input/Output", U11 DQe (io) "Data Input/Output", V1 DQd (io) "Data Input/Output", V2 DQd (io) "Data Input/Output", V10 DQe (io) "Data Input/Output", V11 DQe (io) "Data Input/Output", W1 DQd (io) "Data Input/Output", W2 DQd (io) "Data Input/Output", W10 DQe (io) "Data Input/Output", W11 DQe (io) "Data Input/Output"
part C pins: D3 VSS (power) "Ground", D9 VSS (power) "Ground", E3 VDDQ (power) "Isolated Output Power Supply 3.3V/2.5V", E4 VDDQ (power) "Isolated Output Power Supply 3.3V/2.5V", E5 VDD (power) "3.3V/2.5V Power Supply", E6 VDD (power) "3.3V/2.5V Power Supply", E7 VDD (power) "3.3V/2.5V Power Supply", E8 VDDQ (power) "Isolated Output Power Supply 3.3V/2.5V", E9 VDDQ (power) "Isolated Output Power Supply 3.3V/2.5V", F3 VSS (power) "Ground", F4 VSS (power) "Ground", F5 VSS (power) "Ground", F7 VSS (power) "Ground", F8 VSS (power) "Ground", F9 VSS (power) "Ground", G3 VDDQ (power) "Isolated Output Power Supply 3.3V/2.5V", G4 VDDQ (power) "Isolated Output Power Supply 3.3V/2.5V", G5 VDD (power) "3.3V/2.5V Power Supply", G7 VDD (power) "3.3V/2.5V Power Supply", G8 VDDQ (power) "Isolated Output Power Supply 3.3V/2.5V", G9 VDDQ (power) "Isolated Output Power Supply 3.3V/2.5V", H3 VSS (power) "Ground", H4 VSS (power) "Ground", H5 VSS (power) "Ground", H7 VSS (power) "Ground", H8 VSS (power) "Ground", H9 VSS (power) "Ground", J3 VDDQ (power) "Isolated Output Power Supply 3.3V/2.5V", J4 VDDQ (power) "Isolated Output Power Supply 3.3V/2.5V", J5 VDD (power) "3.3V/2.5V Power Supply", J7 VDD (power) "3.3V/2.5V Power Supply", J8 VDDQ (power) "Isolated Output Power Supply 3.3V/2.5V", J9 VDDQ (power) "Isolated Output Power Supply 3.3V/2.5V", K5 VSS (power) "Ground", K7 VSS (power) "Ground", L3 VDDQ (power) "Isolated Output Power Supply 3.3V/2.5V", L4 VDDQ (power) "Isolated Output Power Supply 3.3V/2.5V", L5 VDD (power) "3.3V/2.5V Power Supply", L7 VDD (power) "3.3V/2.5V Power Supply", L8 VDDQ (power) "Isolated Output Power Supply 3.3V/2.5V", L9 VDDQ (power) "Isolated Output Power Supply 3.3V/2.5V", M3 VSS (power) "Ground", M4 VSS (power) "Ground", M5 VSS (power) "Ground", M7 VSS (power) "Ground", M8 VSS (power) "Ground", M9 VSS (power) "Ground", N3 VDDQ (power) "Isolated Output Power Supply 3.3V/2.5V", N4 VDDQ (power) "Isolated Output Power Supply 3.3V/2.5V", N5 VDD (power) "3.3V/2.5V Power Supply", N7 VDD (power) "3.3V/2.5V Power Supply", N8 VDDQ (power) "Isolated Output Power Supply 3.3V/2.5V", N9 VDDQ (power) "Isolated Output Power Supply 3.3V/2.5V", P3 VSS (power) "Ground", P4 VSS (power) "Ground", P5 VSS (power) "Ground", P7 VSS (power) "Ground", P8 VSS (power) "Ground", P9 VSS (power) "Ground", R3 VDDQ (power) "Isolated Output Power Supply 3.3V/2.5V", R4 VDDQ (power) "Isolated Output Power Supply 3.3V/2.5V", R5 VDD (power) "3.3V/2.5V Power Supply", R6 VDD (power) "3.3V/2.5V Power Supply", R7 VDD (power) "3.3V/2.5V Power Supply", R8 VDDQ (power) "Isolated Output Power Supply 3.3V/2.5V", R9 VDDQ (power) "Isolated Output Power Supply 3.3V/2.5V", T3 VSS (power) "Ground", T9 VSS (power) "Ground"
part D pins: B5 NC "No Connect", C5 NC "No Connect", C7 NC "No Connect", D4 NC "No Connect", D5 NC "No Connect", D8 NC "No Connect", F6 NC "No Connect", G6 NC "No Connect", H6 NC "No Connect", J6 NC "No Connect", K1 NC "No Connect", K2 NC "No Connect", K4 NC "No Connect", K6 NC "No Connect", K8 NC "No Connect", K9 NC "No Connect", K10 NC "No Connect", K11 NC "No Connect", L6 NC "No Connect", M6 NC "No Connect", N6 NC "No Connect", T4 NC "No Connect", T5 NC "No Connect", T7 NC "No Connect", T8 NC "No Connect", U3 NC "No Connect", U9 NC "No Connect"

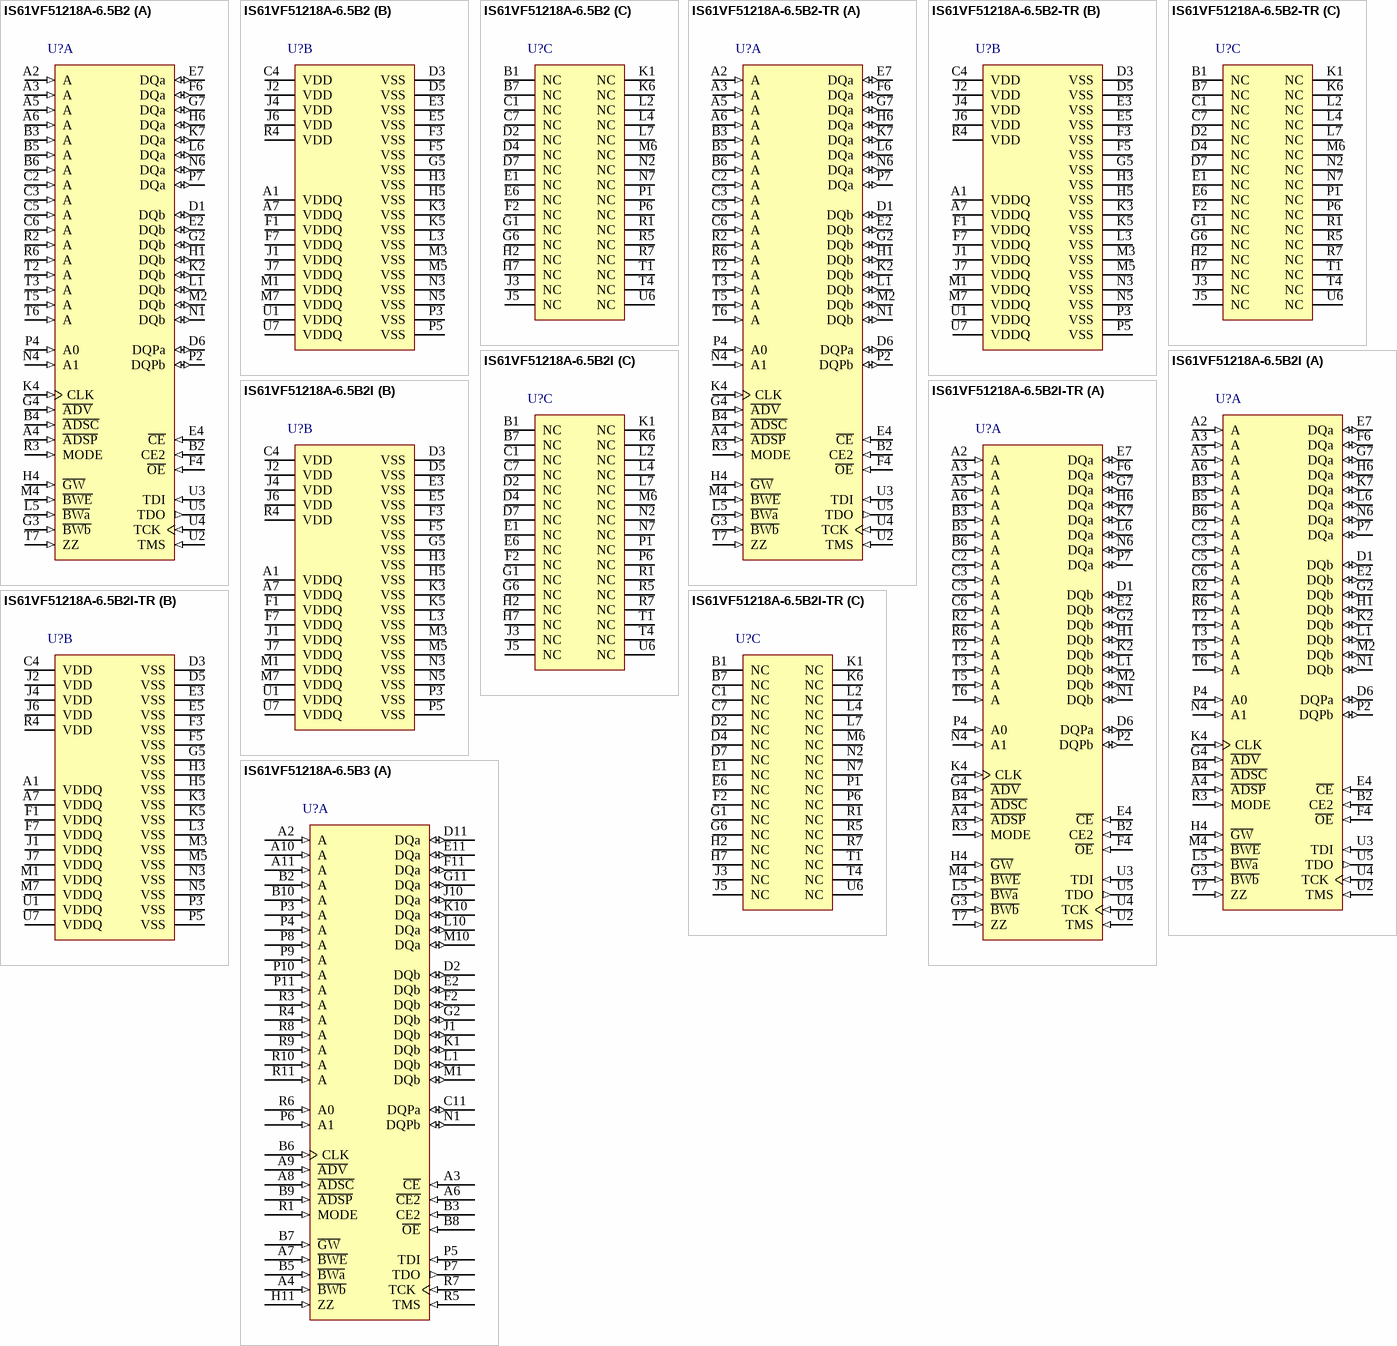
[diagram p115: symbols IS61VF51218A-6.5B2 to IS61VF51218A-6.5B3]

## IS61VF51218A-6.5B2
designator U?
9 M Synchronous Flow Through SRAM, 512 K x 18, 0 to 70 degC, 119-Pin BGA (PBGA-119); Manufacturer: Integrated Silicon Solution Inc (ISSI); PartNumber: IS61VF51218A-6.5B2; Density: 9M; Packing: Tray / Tube; Vcc: 2.5 V; DatasheetVersion: Rev. H; PackageVersion: Rev. D, 10/2008; PackageReference: PBGA-119; PackageDescription: 119-Pin 14 x 22 mm PBGA, Pitch 1.27 mm; Organization: 512Kx18; VccQ: 2.5 V; Mounting Technology: Surface Mount; Code_JEDEC: MS-028; ComponentLink1Description: Manufacturer URL; ComponentLink1URL: http://www.issi.com/US/index.shtml; ComponentLink2Description: Datasheet; ComponentLink2URL: http://www.issi.com/WW/pdf/61VF_LF25636A_51218A.pdf; ComponentLink3Description: Package Specification; ComponentLink3URL: http://www.issi.com/WW/pdf/61NLP_NVP25636A_51218A.pdf
footprint ISSI-PBGA-119-14000X22000DE (BGA, 119-Balls, Body 22x14mm, Pitch 1.27mm)
part A pins: A2 A (in) "Address Input", A3 A (in) "Address Input", A4 ~{ADSP} (in) "Address Status Processor", A5 A (in) "Address Input", A6 A (in) "Address Input", B2 CE2 (in) "Synchronous Chip Select", B3 A (in) "Address Input", B4 ~{ADSC} (in) "Address Status Controller", B5 A (in) "Address Input", B6 A (in) "Address Input", C2 A (in) "Address Input", C3 A (in) "Address Input", C5 A (in) "Address Input", C6 A (in) "Address Input", D1 DQb (io) "Data Input/Output", D6 DQPa (io) "Parity Data I/O", E2 DQb (io) "Data Input/Output", E4 ~{CE} (in) "Synchronous Chip Select", E7 DQa (io) "Data Input/Output", F4 ~{OE} (in) "Output Enable", F6 DQa (io) "Data Input/Output", G2 DQb (io) "Data Input/Output", G3 ~{BWb} (in) "Synchronous Byte Write Control", G4 ~{ADV} (in) "Synchronous Burst Address Advance", G7 DQa (io) "Data Input/Output", H1 DQb (io) "Data Input/Output", H4 ~{GW} (in) "Global Write Enable", H6 DQa (io) "Data Input/Output", K2 DQb (io) "Data Input/Output", K4 CLK (in) "Synchronous Clock", K7 DQa (io) "Data Input/Output", L1 DQb (io) "Data Input/Output", L5 ~{BWa} (in) "Synchronous Byte Write Control", L6 DQa (io) "Data Input/Output", M2 DQb (io) "Data Input/Output", M4 ~{BWE} (in) "Byte Write Enable", N1 DQb (io) "Data Input/Output", N4 A1 (in) "Synchronous Burst Address Input", N6 DQa (io) "Data Input/Output", P2 DQPb (io) "Parity Data I/O", P4 A0 (in) "Synchronous Burst Address Input", P7 DQa (io) "Data Input/Output", R2 A (in) "Address Input", R3 MODE (in) "Burst Sequence Selection", R6 A (in) "Address Input", T2 A (in) "Address Input", T3 A (in) "Address Input", T5 A (in) "Address Input", T6 A (in) "Address Input", T7 ZZ (in) "Power Sleep Mode", U2 TMS (in) "JTAG Pin", U3 TDI (in) "JTAG Pin", U4 TCK (in) "JTAG Pin", U5 TDO (out) "JTAG Pin"
part B pins: A1 VDDQ (power) "Output Power Supply", A7 VDDQ (power) "Output Power Supply", C4 VDD (power) "Power Supply", D3 VSS (power) "Ground", D5 VSS (power) "Ground", E3 VSS (power) "Ground", E5 VSS (power) "Ground", F1 VDDQ (power) "Output Power Supply", F3 VSS (power) "Ground", F5 VSS (power) "Ground", F7 VDDQ (power) "Output Power Supply", G5 VSS (power) "Ground", H3 VSS (power) "Ground", H5 VSS (power) "Ground", J1 VDDQ (power) "Output Power Supply", J2 VDD (power) "Power Supply", J4 VDD (power) "Power Supply", J6 VDD (power) "Power Supply", J7 VDDQ (power) "Output Power Supply", K3 VSS (power) "Ground", K5 VSS (power) "Ground", L3 VSS (power) "Ground", M1 VDDQ (power) "Output Power Supply", M3 VSS (power) "Ground", M5 VSS (power) "Ground", M7 VDDQ (power) "Output Power Supply", N3 VSS (power) "Ground", N5 VSS (power) "Output Power Supply", P3 VSS (power) "Ground", P5 VSS (power) "Ground", R4 VDD (power) "Power Supply", U1 VDDQ (power) "Output Power Supply", U7 VDDQ (power) "Output Power Supply"
part C pins: B1 NC "No Connect", B7 NC "No Connect", C1 NC "No Connect", C7 NC "No Connect", D2 NC "No Connect", D4 NC "No Connect", D7 NC "No Connect", E1 NC "No Connect", E6 NC "No Connect", F2 NC "No Connect", G1 NC "No Connect", G6 NC "No Connect", H2 NC "No Connect", H7 NC "No Connect", J3 NC "No Connect", J5 NC "No Connect", K1 NC "No Connect", K6 NC "No Connect", L2 NC "No Connect", L4 NC "No Connect", L7 NC "No Connect", M6 NC "No Connect", N2 NC "No Connect", N7 NC "No Connect", P1 NC "No Connect", P6 NC "No Connect", R1 NC "No Connect", R5 NC "No Connect", R7 NC "No Connect", T1 NC "No Connect", T4 NC "No Connect", U6 NC "No Connect"

## IS61VF51218A-6.5B2-TR
designator U?
9 M Synchronous Flow Through SRAM, 512 K x 18, 0 to 70 degC, 119-Pin BGA (PBGA-119); Manufacturer: Integrated Silicon Solution Inc (ISSI); PartNumber: IS61VF51218A-6.5B2-TR; Density: 9M; Packing: Tape & Reel; Vcc: 2.5 V; DatasheetVersion: Rev. H; PackageVersion: Rev. D, 10/2008; PackageReference: PBGA-119; PackageDescription: 119-Pin 14 x 22 mm PBGA, Pitch 1.27 mm; Organization: 512Kx18; VccQ: 2.5 V; Mounting Technology: Surface Mount; Code_JEDEC: MS-028; ComponentLink1Description: Manufacturer URL; ComponentLink1URL: http://www.issi.com/US/index.shtml; ComponentLink2Description: Datasheet; ComponentLink2URL: http://www.issi.com/WW/pdf/61VF_LF25636A_51218A.pdf; ComponentLink3Description: Package Specification; ComponentLink3URL: http://www.issi.com/WW/pdf/61NLP_NVP25636A_51218A.pdf
footprint ISSI-PBGA-119-14000X22000DE (BGA, 119-Balls, Body 22x14mm, Pitch 1.27mm)
part A pins: A2 A (in) "Address Input", A3 A (in) "Address Input", A4 ~{ADSP} (in) "Address Status Processor", A5 A (in) "Address Input", A6 A (in) "Address Input", B2 CE2 (in) "Synchronous Chip Select", B3 A (in) "Address Input", B4 ~{ADSC} (in) "Address Status Controller", B5 A (in) "Address Input", B6 A (in) "Address Input", C2 A (in) "Address Input", C3 A (in) "Address Input", C5 A (in) "Address Input", C6 A (in) "Address Input", D1 DQb (io) "Data Input/Output", D6 DQPa (io) "Parity Data I/O", E2 DQb (io) "Data Input/Output", E4 ~{CE} (in) "Synchronous Chip Select", E7 DQa (io) "Data Input/Output", F4 ~{OE} (in) "Output Enable", F6 DQa (io) "Data Input/Output", G2 DQb (io) "Data Input/Output", G3 ~{BWb} (in) "Synchronous Byte Write Control", G4 ~{ADV} (in) "Synchronous Burst Address Advance", G7 DQa (io) "Data Input/Output", H1 DQb (io) "Data Input/Output", H4 ~{GW} (in) "Global Write Enable", H6 DQa (io) "Data Input/Output", K2 DQb (io) "Data Input/Output", K4 CLK (in) "Synchronous Clock", K7 DQa (io) "Data Input/Output", L1 DQb (io) "Data Input/Output", L5 ~{BWa} (in) "Synchronous Byte Write Control", L6 DQa (io) "Data Input/Output", M2 DQb (io) "Data Input/Output", M4 ~{BWE} (in) "Byte Write Enable", N1 DQb (io) "Data Input/Output", N4 A1 (in) "Synchronous Burst Address Input", N6 DQa (io) "Data Input/Output", P2 DQPb (io) "Parity Data I/O", P4 A0 (in) "Synchronous Burst Address Input", P7 DQa (io) "Data Input/Output", R2 A (in) "Address Input", R3 MODE (in) "Burst Sequence Selection", R6 A (in) "Address Input", T2 A (in) "Address Input", T3 A (in) "Address Input", T5 A (in) "Address Input", T6 A (in) "Address Input", T7 ZZ (in) "Power Sleep Mode", U2 TMS (in) "JTAG Pin", U3 TDI (in) "JTAG Pin", U4 TCK (in) "JTAG Pin", U5 TDO (out) "JTAG Pin"
part B pins: A1 VDDQ (power) "Output Power Supply", A7 VDDQ (power) "Output Power Supply", C4 VDD (power) "Power Supply", D3 VSS (power) "Ground", D5 VSS (power) "Ground", E3 VSS (power) "Ground", E5 VSS (power) "Ground", F1 VDDQ (power) "Output Power Supply", F3 VSS (power) "Ground", F5 VSS (power) "Ground", F7 VDDQ (power) "Output Power Supply", G5 VSS (power) "Ground", H3 VSS (power) "Ground", H5 VSS (power) "Ground", J1 VDDQ (power) "Output Power Supply", J2 VDD (power) "Power Supply", J4 VDD (power) "Power Supply", J6 VDD (power) "Power Supply", J7 VDDQ (power) "Output Power Supply", K3 VSS (power) "Ground", K5 VSS (power) "Ground", L3 VSS (power) "Ground", M1 VDDQ (power) "Output Power Supply", M3 VSS (power) "Ground", M5 VSS (power) "Ground", M7 VDDQ (power) "Output Power Supply", N3 VSS (power) "Ground", N5 VSS (power) "Output Power Supply", P3 VSS (power) "Ground", P5 VSS (power) "Ground", R4 VDD (power) "Power Supply", U1 VDDQ (power) "Output Power Supply", U7 VDDQ (power) "Output Power Supply"
part C pins: B1 NC "No Connect", B7 NC "No Connect", C1 NC "No Connect", C7 NC "No Connect", D2 NC "No Connect", D4 NC "No Connect", D7 NC "No Connect", E1 NC "No Connect", E6 NC "No Connect", F2 NC "No Connect", G1 NC "No Connect", G6 NC "No Connect", H2 NC "No Connect", H7 NC "No Connect", J3 NC "No Connect", J5 NC "No Connect", K1 NC "No Connect", K6 NC "No Connect", L2 NC "No Connect", L4 NC "No Connect", L7 NC "No Connect", M6 NC "No Connect", N2 NC "No Connect", N7 NC "No Connect", P1 NC "No Connect", P6 NC "No Connect", R1 NC "No Connect", R5 NC "No Connect", R7 NC "No Connect", T1 NC "No Connect", T4 NC "No Connect", U6 NC "No Connect"